# Altium footprint library JS202011JAQN DPDT Switch.PcbLib: 1 footprints
Each footprint in its own frame and in the unit in brackets; x right, y up, seen from the top. Pads: shape width x height; smd on the part's side, far side on the other; paste and mask are expansions set on the pad; w line width, h text height; cw(c..) or ccw(c..) is an arc to the next point about the centre after c.
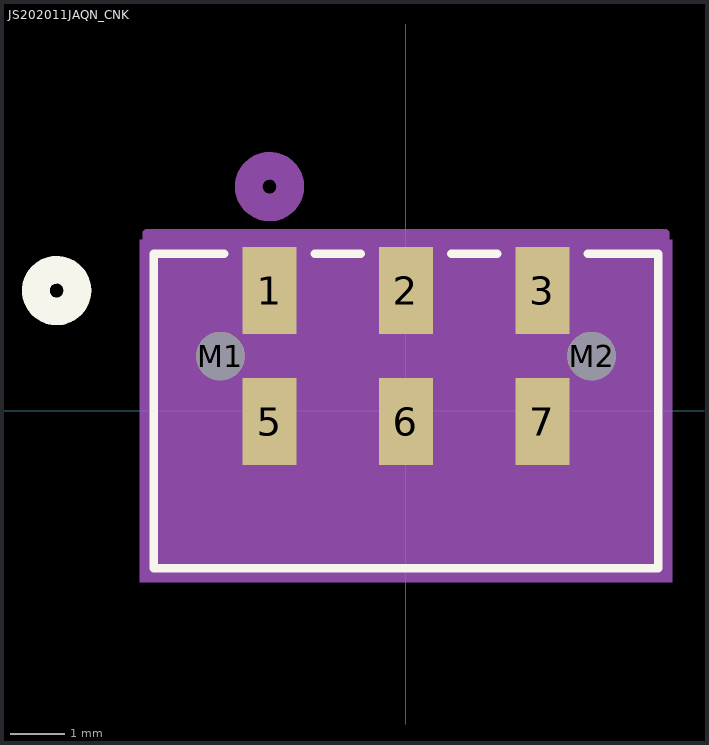
[diagram p0: the footprint, top view; thin cyan lines are the x and y axes]

## JS202011JAQN_CNK [mil]
pads (8):
  rect 39x63 smd paste+0 mask+0: 1(-98.43,86.85) 2(0,86.85) 3(98.43,86.85) 5(-98.43,-7.64) 6(0,-7.64) 7(98.43,-7.64)
  round 35 hole 35 unplated: M1(-133.86,39.6) M2(133.86,39.6)
Top Overlay:
  circle w20: c-252,86.85 r15
  lines w6: -131.03,113.5 -182,113.5 -182,-113.5 182,-113.5 182,113.5 131.03,113.5 ; -65.83,113.5 -32.6,113.5 ; 32.6,113.5 65.83,113.5
Bottom Overlay:
  circle w20: c-252,86.85 r15
Mechanical 5:
  region: -192,123.5 192,123.5 192,-123.5 -192,-123.5
Mechanical 13:
  circle w20: c-98.43,161.85 r15
  lines w1: -177,-108.5 177,-108.5 177,108.5 -177,108.5 -177,-108.5
Mechanical 15:
  region: 187,128.35 -187,128.35 -187,-118.5 187,-118.5
  lines w6: -187,-118.5 -187,128.35 187,128.35 187,-118.5 -187,-118.5
3D body: height 10, standoff 0, extent 0,0 10,10